# EAGLE library part MAX2480X-101 (library samuel)
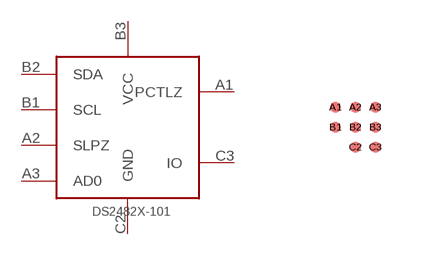
[diagram p8: symbol with the pads of 9-WLP; footprint 9-WLP]

Designator prefix -

## MAX2480X-101  [9-WLP]
A1  PCTLZ
A2  SLPZ
A3  AD0
B1  SCL
B2  SDA
B3  VCC
C2  GND
C3  IO

## Footprint 9-WLP (pad centres in mm)
smd 0.279 x 0.279: A1 -0.5,0.5; A2 0,0.5; A3 0.5,0.5; B1 -0.5,0; B2 0,0; B3 0.5,0; C2 0,-0.5; C3 0.5,-0.5